# Altium footprint library basic_pcb.PcbLib: 133 footprints (part 4 of 9)
Each footprint in its own frame and in the unit in brackets; x right, y up, seen from the top. Pads: shape width x height; smd on the part's side, far side on the other; paste and mask are expansions set on the pad; w line width, h text height; cw(c..) or ccw(c..) is an arc to the next point about the centre after c.
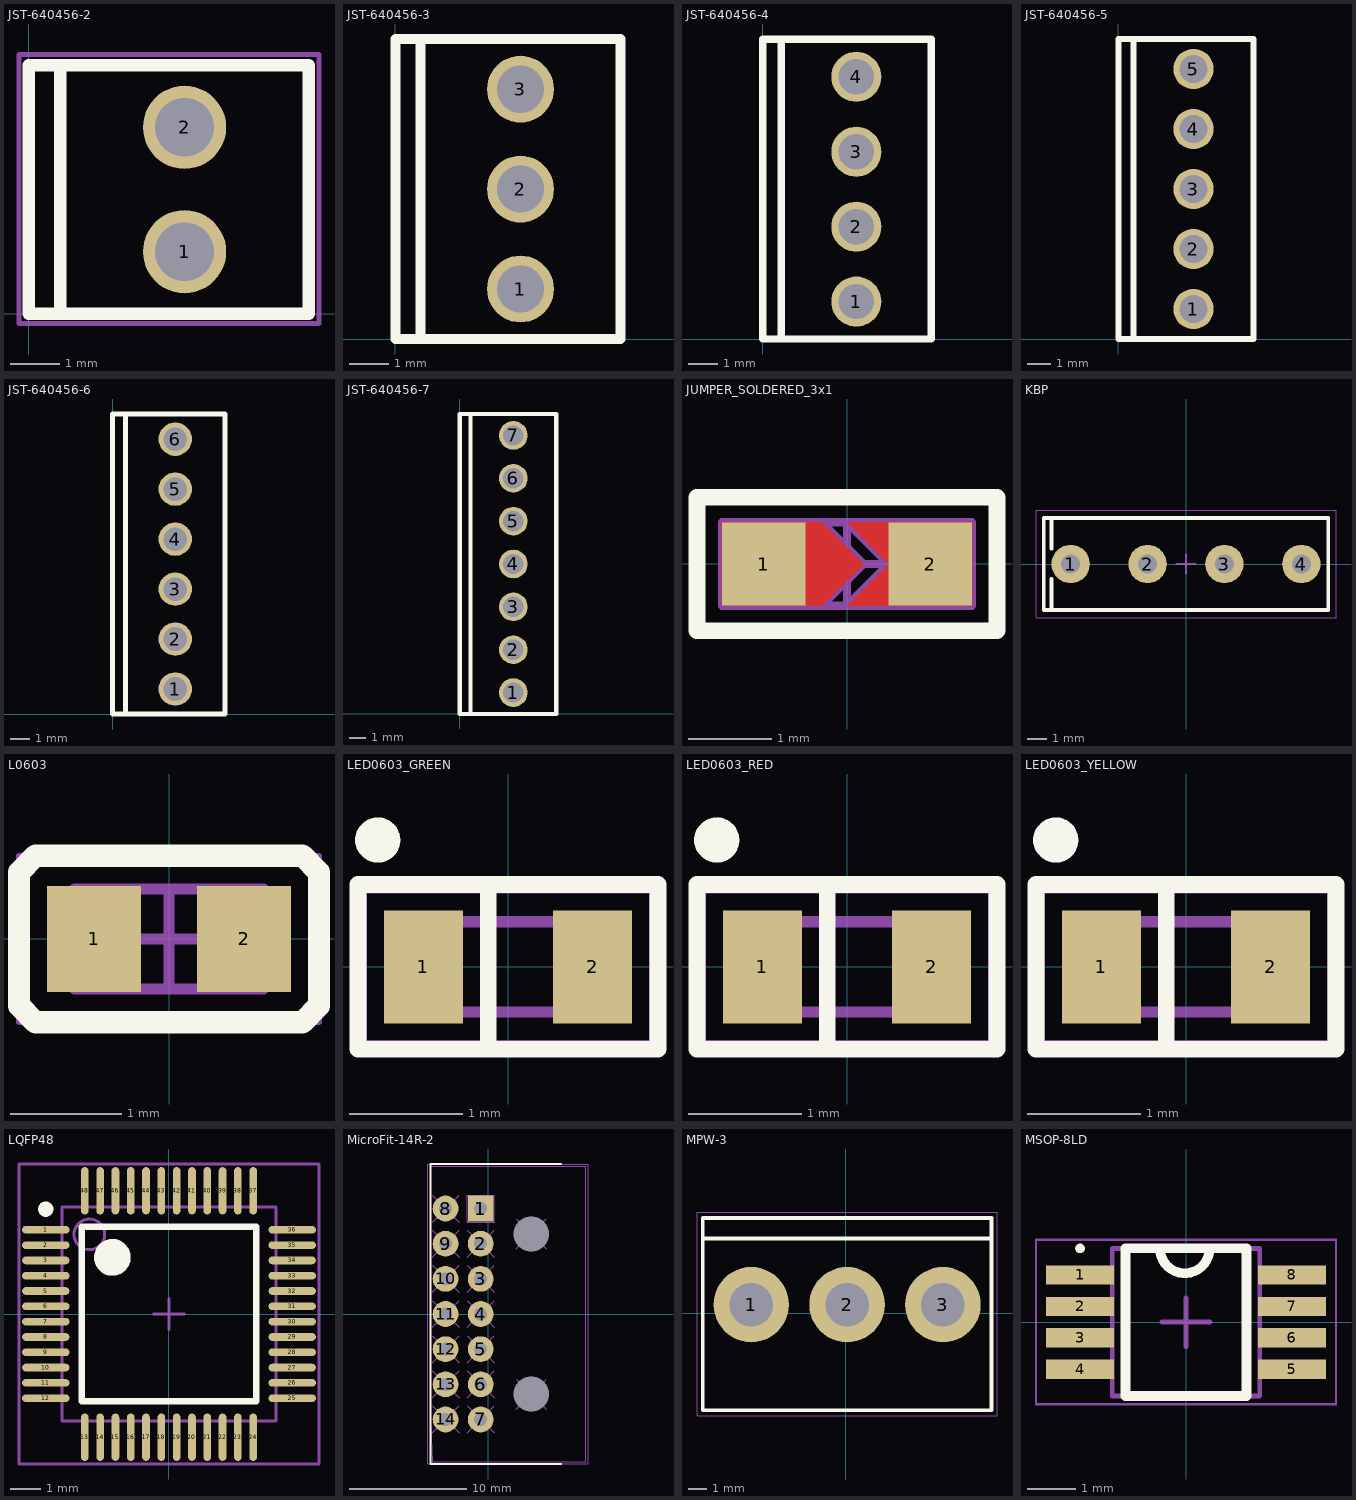
[diagram p3: the footprints below, top view; thin cyan lines are the x and y axes]

## JST-640456-2 [mm]
pads (2):
  round 1.7 hole 1.2: 1(3.18,1.27) 2(3.18,3.81)
Top Overlay:
  lines w0.254: 0.64,0 0.64,5.08 ; 1.6,0 1.7,0 ; 0,0 0,5.08 5.72,5.08 5.72,0 0,0
Top Value:
  text ".Comment" at 0.711,1.548 h1.52
Top Designator:
  text ".Designator" at 0.283,2.772 h1.52
Top Courtyard:
  lines w0.102: -0.2,-0.2 -0.2,5.3 5.925,5.3 5.925,-0.2 -0.2,-0.2
3D body "User Library-640456-2.step": height 10.03, standoff -3.56, extent -0.061,0 5.781,5.08

## JST-640456-3 [mm]
pads (3):
  round 1.7 hole 1.2: 1(3.18,1.27) 2(3.18,3.81) 3(3.18,6.35)
Top Overlay:
  lines w0.254: 0.64,0 0.64,7.62 ; 1.6,0 1.7,0 ; 0,0 0,7.62 5.72,7.62 5.72,0 0,0
Top Value:
  text ".Comment" at 0.711,2.848 h1.52
Top Designator:
  text ".Designator" at 0.283,4.072 h1.52
Top Courtyard:
  lines w0.102: 0,0 5.725,0 5.725,7.625 0,7.625 0,0
3D body "User Library-640456-3.step": height 10.03, standoff -3.56, extent 0.005,0 5.847,7.62

## JST-640456-4 [mm]
pads (4):
  round 1.7 hole 1.2: 1(3.18,1.27) 2(3.18,3.81) 3(3.18,6.35) 4(3.18,8.89)
Top Overlay:
  lines w0.254: 0.64,0 0.64,10.16 ; 1.6,0 1.7,0 ; 0,0 0,10.16 5.72,10.16 5.72,0 0,0
Top Value:
  text ".Comment" at 0.711,4.148 h1.52
Top Designator:
  text ".Designator" at 0.283,5.372 h1.52
Top Courtyard:
  lines w0.102: 0,0 5.725,0 5.725,10.175 0,10.175 0,0
3D body "User Library-640456-4.step": height 10.03, standoff -3.56, extent -0.122,0 5.72,10.16

## JST-640456-5 [mm]
pads (5):
  round 1.7 hole 1.2: 1(3.18,1.27) 2(3.18,3.81) 3(3.18,6.35) 4(3.18,8.89) 5(3.18,11.43)
Top Overlay:
  lines w0.254: 0.64,0 0.64,12.7 ; 1.6,0 1.7,0 ; 0,0 0,12.7 5.72,12.7 5.72,0 0,0
Top Value:
  text ".Comment" at 0.611,5.448 h1.52
Top Designator:
  text ".Designator" at 0.183,6.672 h1.52
Top Courtyard:
  lines w0.102: 0,0 5.725,0 5.725,12.7 0,12.7 0,0
3D body "User Library-640456-5.step": height 10.03, standoff -3.56, extent 0,0 5.842,12.7

## JST-640456-6 [mm]
pads (6):
  round 1.7 hole 1.2: 1(3.18,1.27) 2(3.18,3.81) 3(3.18,6.35) 4(3.18,8.89) 5(3.18,11.43) 6(3.18,13.97)
Top Overlay:
  lines w0.254: 0.64,0 0.64,15.24 ; 1.6,0 1.7,0 ; 0,0 0,15.24 ; 0,0 5.72,0 5.72,15.24 0,15.24 ; 0,0 0,15.24
Top Value:
  text ".Comment" at 0.611,6.648 h1.52
Top Designator:
  text ".Designator" at 0.183,7.872 h1.52
Top Courtyard:
  lines w0.102: 0,0 5.725,0 5.725,15.25 0,15.25 0,0
3D body "User Library-640456-4.step": height 10.03, standoff -3.56, extent -0.122,0 5.72,10.16
3D body "User Library-640456-4.step": height 10.03, standoff -3.56, extent -0.122,5.08 5.72,15.24

## JST-640456-7 [mm]
pads (7):
  round 1.7 hole 1.2: 1(3.18,1.27) 2(3.18,3.81) 3(3.18,6.35) 4(3.18,8.89) 5(3.18,11.43) 6(3.18,13.97) 7(3.18,16.51)
Top Overlay:
  lines w0.254: 0.64,0 0.64,17.78 ; 1.6,0 1.7,0 ; 0,0 5.72,0 5.72,17.78 0,17.78 0,0
Top Value:
  text ".Comment" at 0.711,8.048 h1.52
Top Designator:
  text ".Designator" at 0.283,9.272 h1.52
Top Courtyard:
  lines w0.102: 0,0 5.725,0 5.725,17.775 0,17.775 0,0
3D body "User Library-640456-4.step": height 10.03, standoff -3.56, extent -0.061,7.62 5.781,17.78
3D body "User Library-640456-4.step": height 10.03, standoff -3.56, extent -0.061,0 5.781,10.16

## JUMPER_SOLDERED_3x1 [mm]
pads (2):
  rect 1x1 smd: 1(-1,0) 2(1,0)
Top Layer:
  region: 1.5,0.5 0,0.5 0.5,0 0,-0.5 1.5,-0.5
  region: -1.5,0.5 -0.3,0.5 0.2,0 -0.3,-0.5 -1.5,-0.5
Top Overlay:
  lines w0.2: -1.8,-0.8 1.8,-0.8 1.8,0.8 -1.8,0.8 -1.8,-0.8
Top Value:
  text ".Comment" at -1.633,-2.211 h1
Top Designator:
  text ".Designator" at -1.613,-1.523 h1
Top Component Outline:
  lines w0.1: -0.3,-0.5 0.2,0 -0.3,0.5 ; 0,-0.5 0.5,0 0,0.5 ; -1.5,-0.5 1.5,-0.5 1.5,0.5 -1.5,0.5 -1.5,-0.5
Top Courtyard:
  lines w0.05: -1.8,-0.8 -1.8,0.8 1.8,0.8 1.8,-0.8 -1.8,-0.8
  lines w0.1: -0.5,0 0.5,0 ; 0,-0.5 0,0.5

## KBP [mm] "Âåðòèêàëüíûé äèîäíûé ìîñò"
height 21
pads (4):
  round 2 hole 1: 1(-6,0) 2(-2,0) 3(2,0) 4(6,0)
Top Overlay:
  lines w0.2: -7,-2.378 -7,-0.778 ; -7,0.8 -7,2.4 ; -7.4,-2.378 -7.4,2.4 7.4,2.4 7.4,-2.4 -7.378,-2.4 -7.4,-2.378
Top Value:
  text ".Comment" at -1.722,-1.874 h1.2
Top Designator:
  text ".Designator" at -2.578,1.165 h1.5
Top Component Outline:
  lines w0.1: -7.4,-2.378 -7.4,2.4 7.4,2.4 7.4,-2.4 -7.378,-2.4 -7.4,-2.378
Top Courtyard:
  lines w0.05: -7.8,-2.8 -7.8,2.8 7.8,2.8 7.8,-2.8 -7.8,-2.8
  lines w0.1: -0.5,0 0.5,0 ; 0,-0.5 0,0.5
3D body "User Library-KBP.STEP": height 12.19, standoff -3.5, extent -7.365,-2.413 7.365,2.413

## L0603 [mm] "Chip Inductor, 2-Leads, Body 1,60x0,80mm, IPC Medium Density"
height 0.8
pads (2):
  rect 0.85x0.95 smd: 1(-0.675,0) 2(0.675,0)
Top Overlay:
  lines w0.2: -1.35,-0.6 -1.35,0.6 -1.2,0.75 1.2,0.75 1.35,0.6 1.35,-0.6 1.2,-0.75 -1.2,-0.75 -1.35,-0.6
Top Value:
  text ".Comment" at -1.507,-2.874 h1.2
Top Designator:
  text ".Designator" at -1.508,-1.835 h1.5
Top Component Outline:
  lines w0.1: -0.85,-0.45 -0.85,0.45 0.85,0.45 0.85,-0.45 -0.85,-0.45
Top Courtyard:
  lines w0.05: -1.35,-0.75 1.35,-0.75 1.35,0.75 -1.35,0.75 -1.35,-0.75
  lines w0.1: -0.45,0 0.45,0 ; 0,-0.45 0,0.45
3D body: height 0.9, standoff 0, extent -0.5,-0.45 0.5,0.45
3D body: height 0.9, standoff 0, extent -0.85,-0.45 -0.5,0.45
3D body: height 0.9, standoff 0, extent 0.5,-0.45 0.85,0.45

## LED0603_GREEN [mm]
height 1.1
pads (2):
  rect 0.7x1 smd: 1(-0.75,0) 2(0.75,0)
Top Overlay:
  circle w0.2: c-1.155,1.125 r0.1
  lines w0.15: -0.175,-0.73 -0.175,0.73 ; -1.33,-0.73 -1.33,0.73 1.33,0.73 1.33,-0.73 -1.33,-0.73
Top Value:
  text ".Comment" at -1.407,-2.874 h1.2
Top Designator:
  text ".Designator" at -1.408,-1.835 h1.5
Top Component Outline:
  lines w0.1: -0.7,-0.4 -0.7,0.4 ; -0.6,-0.4 -0.6,0.4 ; -0.5,-0.4 -0.5,0.4 ; -0.8,-0.4 0.8,-0.4 0.8,0.4 -0.8,0.4 -0.8,-0.4
Top Courtyard:
  lines w0.1: -1.3,-0.7 1.3,-0.7 1.3,0.7 -1.3,0.7 -1.3,-0.7
3D body: height 1.1, standoff 0, extent -0.8,-0.4 0.8,0.4

## LED0603_RED [mm]
height 1.1
pads (2):
  rect 0.7x1 smd: 1(-0.75,0) 2(0.75,0)
Top Overlay:
  circle w0.2: c-1.155,1.125 r0.1
  lines w0.15: -0.175,-0.73 -0.175,0.73 ; -1.33,-0.73 1.33,-0.73 1.33,0.73 -1.33,0.73 -1.33,-0.73
Top Value:
  text ".Comment" at -1.407,-2.874 h1.2
Top Designator:
  text ".Designator" at -1.408,-1.835 h1.5
Top Component Outline:
  lines w0.1: -0.7,-0.4 -0.7,0.4 ; -0.6,-0.4 -0.6,0.4 ; -0.5,-0.4 -0.5,0.4 ; -0.8,-0.4 -0.8,0.4 0.8,0.4 0.8,-0.4 -0.8,-0.4
Top Courtyard:
  lines w0.1: -1.3,-0.7 -1.3,0.7 1.3,0.7 1.3,-0.7 -1.3,-0.7
3D body: height 1.1, standoff 0, extent -0.8,-0.4 0.8,0.4

## LED0603_YELLOW [mm]
height 1.1
pads (2):
  rect 0.7x1 smd: 1(-0.75,0) 2(0.75,0)
Top Overlay:
  circle w0.2: c-1.155,1.125 r0.1
  lines w0.15: -0.175,-0.73 -0.175,0.73 ; -1.33,-0.73 1.33,-0.73 1.33,0.73 -1.33,0.73 -1.33,-0.73
Top Value:
  text ".Comment" at -1.407,-2.874 h1.2
Top Designator:
  text ".Designator" at -1.408,-1.835 h1.5
Top Component Outline:
  lines w0.1: -0.7,-0.4 -0.7,0.4 ; -0.6,-0.4 -0.6,0.4 ; -0.5,-0.4 -0.5,0.4 ; -0.8,-0.4 -0.8,0.4 0.8,0.4 0.8,-0.4 -0.8,-0.4
Top Courtyard:
  lines w0.1: -1.3,-0.7 -1.3,0.7 1.3,0.7 1.3,-0.7 -1.3,-0.7
3D body: height 1.1, standoff 0, extent -0.8,-0.4 0.8,0.4

## LQFP48 [mm] "Thin QFP, 48-Leads, Body 7x7mm, Pitch 0.5mm, IPC High Density"
height 1.6
pads (48):
  oval 1.55x0.25 smd: 1(-4.025,2.75) 2(-4.025,2.25) 3(-4.025,1.75) 4(-4.025,1.25) 5(-4.025,0.75) 6(-4.025,0.25) 7(-4.025,-0.25) 8(-4.025,-0.75) 9(-4.025,-1.25) 10(-4.025,-1.75) 11(-4.025,-2.25) 12(-4.025,-2.75) 25(4.025,-2.75) 26(4.025,-2.25) 27(4.025,-1.75) 28(4.025,-1.25) 29(4.025,-0.75) 30(4.025,-0.25) 31(4.025,0.25) 32(4.025,0.75) 33(4.025,1.25) 34(4.025,1.75) 35(4.025,2.25) 36(4.025,2.75)
  oval 0.25x1.55 smd: 13(-2.75,-4.025) 14(-2.25,-4.025) 15(-1.75,-4.025) 16(-1.25,-4.025) 17(-0.75,-4.025) 18(-0.25,-4.025) 19(0.25,-4.025) 20(0.75,-4.025) 21(1.25,-4.025) 22(1.75,-4.025) 23(2.25,-4.025) 24(2.75,-4.025) 37(2.75,4.025) 38(2.25,4.025) 39(1.75,4.025) 40(1.25,4.025) 41(0.75,4.025) 42(0.25,4.025) 43(-0.25,4.025) 44(-0.75,4.025) 45(-1.25,4.025) 46(-1.75,4.025) 47(-2.25,4.025) 48(-2.75,4.025)
Top Overlay:
  circle w0.6: c-1.85,1.85 r0.3
  circle w0.25: c-4.025,3.425 r0.125
  lines w0.2: -2.85,-2.85 2.85,-2.85 2.85,2.85 -2.85,2.85 -2.85,-2.85
Top Value:
  text ".Comment" at -2.189,-0.952 h1.52
Top Designator:
  text ".Designator" at -2.617,0.272 h1.52
Top 3D Body:
  circle w0.1: c-2.6,2.6 r0.5
  lines w0.1: -3.5,-3.5 3.5,-3.5 3.5,3.5 -3.5,3.5 -3.5,-3.5
Top Courtyard:
  lines w0.1: -0.5,0 0.5,0 ; 0,-0.5 0,0.5 ; -4.9,-4.9 4.9,-4.9 4.9,4.9 -4.9,4.9 -4.9,-4.9
3D body: height 1.6, standoff 0, extent -3.5,-3.5 3.5,3.5

## MicroFit-14R-2 [mm]
height 0.05
pads (16):
  rect 2.2x2.2 hole 1.1: 1(-0.66,9)
  round 2.2 hole 1.1: 2(-0.66,6) 3(-0.66,3) 7(-0.66,-9) 8(-3.66,9) 9(-3.66,6) 10(-3.66,3) 14(-3.66,-9)
  round 2.2 hole 1.1 mask+0.102: 4(-0.66,0) 5(-0.66,-3) 6(-0.66,-6) 11(-3.66,0) 12(-3.66,-3) 13(-3.66,-6)
  round 0 hole 3: ""(3.66,-6.84) ""(3.66,6.84)
Top Overlay:
  lines w0.15: 6.2,-12.8 -4.935,-12.8 -4.935,12.8 6.2,12.8
Top Value:
  text ".Comment" at 4.552,-2.189 h1.52
Top Designator:
  text ".Designator" at 3.329,-2.617 h1.52
Top Component Outline:
  lines w0.1: -4.81,-10.15 -3.66,-9 ; -4.81,-7.85 -3.66,-9 ; -4.81,-7.15 -3.66,-6 ; -4.81,-4.85 -3.66,-6 ; -4.81,-4.15 -3.66,-3 ; -4.81,-1.85 -3.66,-3 ; -4.81,-1.15 -3.66,0 ; -4.81,1.15 -3.66,0 ; -4.81,1.85 -3.66,3 ; -4.81,4.15 -3.66,3 ; -4.81,4.85 -3.66,6 ; -4.81,7.15 -3.66,6 ; -4.81,7.85 -3.66,9 ; -4.81,10.15 -3.66,9 ; -2.51,-10.15 -3.66,-9 ; -2.51,-7.85 -3.66,-9 ; -2.51,-7.15 -3.66,-6 ; -2.51,-4.85 -3.66,-6 ; -2.51,-4.15 -3.66,-3 ; -2.51,-1.85 -3.66,-3 ; -2.51,-1.15 -3.66,0 ; -2.51,1.15 -3.66,0 ; -2.51,1.85 -3.66,3 ; -2.51,4.15 -3.66,3 ; -2.51,4.85 -3.66,6 ; -2.51,7.15 -3.66,6 ; -2.51,7.85 -3.66,9 ; -2.51,10.15 -3.66,9 ; -1.81,-10.15 -0.66,-9 ; -1.81,-7.85 -0.66,-9 ; -1.81,-7.15 -0.66,-6 ; -1.81,-4.85 -0.66,-6 ; -1.81,-4.15 -0.66,-3 ; -1.81,-1.85 -0.66,-3 ; -1.81,-1.15 -0.66,0 ; -1.81,1.15 -0.66,0 ; -1.81,1.85 -0.66,3 ; -1.81,4.15 -0.66,3 ; -1.81,4.85 -0.66,6 ; -1.81,7.15 -0.66,6 ; 0.49,-10.15 -0.66,-9 ; 0.49,-7.85 -0.66,-9 ; 0.49,-7.15 -0.66,-6 ; 0.49,-4.85 -0.66,-6 ; 0.49,-4.15 -0.66,-3 ; 0.49,-1.85 -0.66,-3 ; 0.49,-1.15 -0.66,0 ; 0.49,1.15 -0.66,0 ; 0.49,1.85 -0.66,3 ; 0.49,4.15 -0.66,3 ; 0.49,4.85 -0.66,6 ; 0.49,7.15 -0.66,6 ; 2.39,-8.11 2.644,-7.856 ; 2.39,-5.57 2.644,-5.824 ; 2.39,5.57 2.644,5.824 ; 2.39,8.11 2.644,7.856 ; 2.898,-7.602 3.152,-7.348 ; 2.898,-6.078 3.152,-6.332 ; 2.898,6.078 3.152,6.332 ; 2.898,7.602 3.152,7.348 ; 3.406,-7.094 3.66,-6.84 ; 3.406,-6.586 3.66,-6.84 ; 3.406,6.586 3.66,6.84 ; 3.406,7.094 3.66,6.84 ; 3.914,-7.094 3.66,-6.84 ; 3.914,-6.586 3.66,-6.84 ; 3.914,6.586 3.66,6.84 ; 3.914,7.094 3.66,6.84 ; 4.168,-7.348 4.422,-7.602 ; 4.168,-6.332 4.422,-6.078 ; 4.168,6.332 4.422,6.078 ; 4.168,7.348 4.422,7.602 ; 4.676,-7.856 4.93,-8.11 ; 4.676,-5.824 4.93,-5.57 ; 4.676,5.824 4.93,5.57 ; 4.676,7.856 4.93,8.11 ; -1.81,7.85 0.49,7.85 ; -1.81,7.85 -1.81,10.15 ; -1.81,7.85 -0.66,9 ; -1.81,10.15 0.49,10.15 ; -1.81,10.15 -0.66,9 ; -0.66,9 0.49,10.15 ; -0.66,9 0.49,7.85 ; 0.49,7.85 0.49,10.15 ; -4.91,-9.6 -4.81,-12.6 8.3,-12.6 8.3,12.6 -4.91,12.6 -4.91,-4.95 -4.91,-9.6
Top Courtyard:
  lines w0.1: -5.16,-8.7 -5.16,12.8 8.5,12.8 8.5,-12.8 -5.16,-12.8 -5.16,-7.35
3D body "430451400.stp": height 8.78, standoff -3.17, extent -3.99,-12.575 8.25,12.575

## MPW-3 [mm] "Ðàçúåì ïèòàíèÿ øàã 5.08"
pads (3):
  round 4 hole 2.3: 1(-5,0.445) 2(0.08,0.445) 3(5.16,0.445)
Top Overlay:
  lines w0.2: -7.57,3.945 7.73,3.945 ; -7.57,-5.155 7.73,-5.155 7.73,5.045 -7.57,5.045 -7.57,-5.155
Top Value:
  text ".Comment" at -2.189,-4.252 h1.52
Top Designator:
  text ".Designator" at -2.617,-3.028 h1.52
Top Courtyard:
  lines w0.05: -7.875,-5.45 8.025,-5.45 8.025,5.35 -7.875,5.35 -7.875,-5.45
  lines w0.1: -0.5,0 0.5,0 ; 0,-0.5 0,0.5
3D body "MPW-3.STEP": height 13.9, standoff -3.6, extent -7.5,-5.125 7.8,5.075

## MSOP-8LD [mm]
height 0.9
pads (8):
  rect 1.4x0.4 smd: 1(-2.19,0.975) 2(-2.19,0.325) 3(-2.19,-0.325) 4(-2.19,-0.975) 5(2.19,-0.975) 6(2.19,-0.325) 7(2.19,0.325) 8(2.19,0.975)
Top Overlay:
  circle w0.1: c-2.19,1.525 r0.05
  lines w0.2: -0.538,1.525 ccw(c-0.025,1.525) 0.488,1.525 ; -1.25,-1.525 1.25,-1.525 1.25,1.525 -1.25,1.525 -1.25,-1.525
Top Value:
  text ".Comment" at -2.189,-3.952 h1.52
Top Designator:
  text ".Designator" at -2.617,-2.728 h1.52
Top Component Outline:
  lines w0.1: -1.525,-1.1 -2.525,-1.1 -2.525,-0.85 -1.525,-0.85 ; -1.525,-0.45 -2.525,-0.45 -2.525,-0.2 -1.525,-0.2 ; -1.525,0.2 -2.525,0.2 -2.525,0.45 -1.525,0.45 ; -1.525,0.85 -2.525,0.85 -2.525,1.1 -1.525,1.1 ; -0.499,1.525 ccw(c0,1.5) 0.499,1.525 ; 1.525,-1.1 2.525,-1.1 2.525,-0.85 1.525,-0.85 ; 1.525,-0.45 2.525,-0.45 2.525,-0.2 1.525,-0.2 ; 1.525,0.2 2.525,0.2 2.525,0.45 1.525,0.45 ; 1.525,0.85 2.525,0.85 2.525,1.1 1.525,1.1 ; -1.525,-1.525 1.525,-1.525 1.525,1.525 -1.525,1.525 -1.525,-1.525
Top Courtyard:
  lines w0.05: -3.1,-1.7 3.1,-1.7 3.1,1.7 -3.1,1.7 -3.1,-1.7
  lines w0.1: -0.5,0 0.5,0 ; 0,-0.5 0,0.5
3D body: height 0.7, standoff 0, extent -2.515,-1.525 -1.525,1.525
3D body: height 0.7, standoff 0, extent 1.525,-1.525 2.515,1.525
3D body: height 1.11, standoff 0, extent -1.525,-1.525 1.525,1.525